# Altium footprint library RCD(RESISTORNETWORK).PCBLIB: 15 footprints
Each footprint in its own frame and in the unit in brackets; x right, y up, seen from the top. Pads: shape width x height; smd on the part's side, far side on the other; paste and mask are expansions set on the pad; w line width, h text height; cw(c..) or ccw(c..) is an arc to the next point about the centre after c.
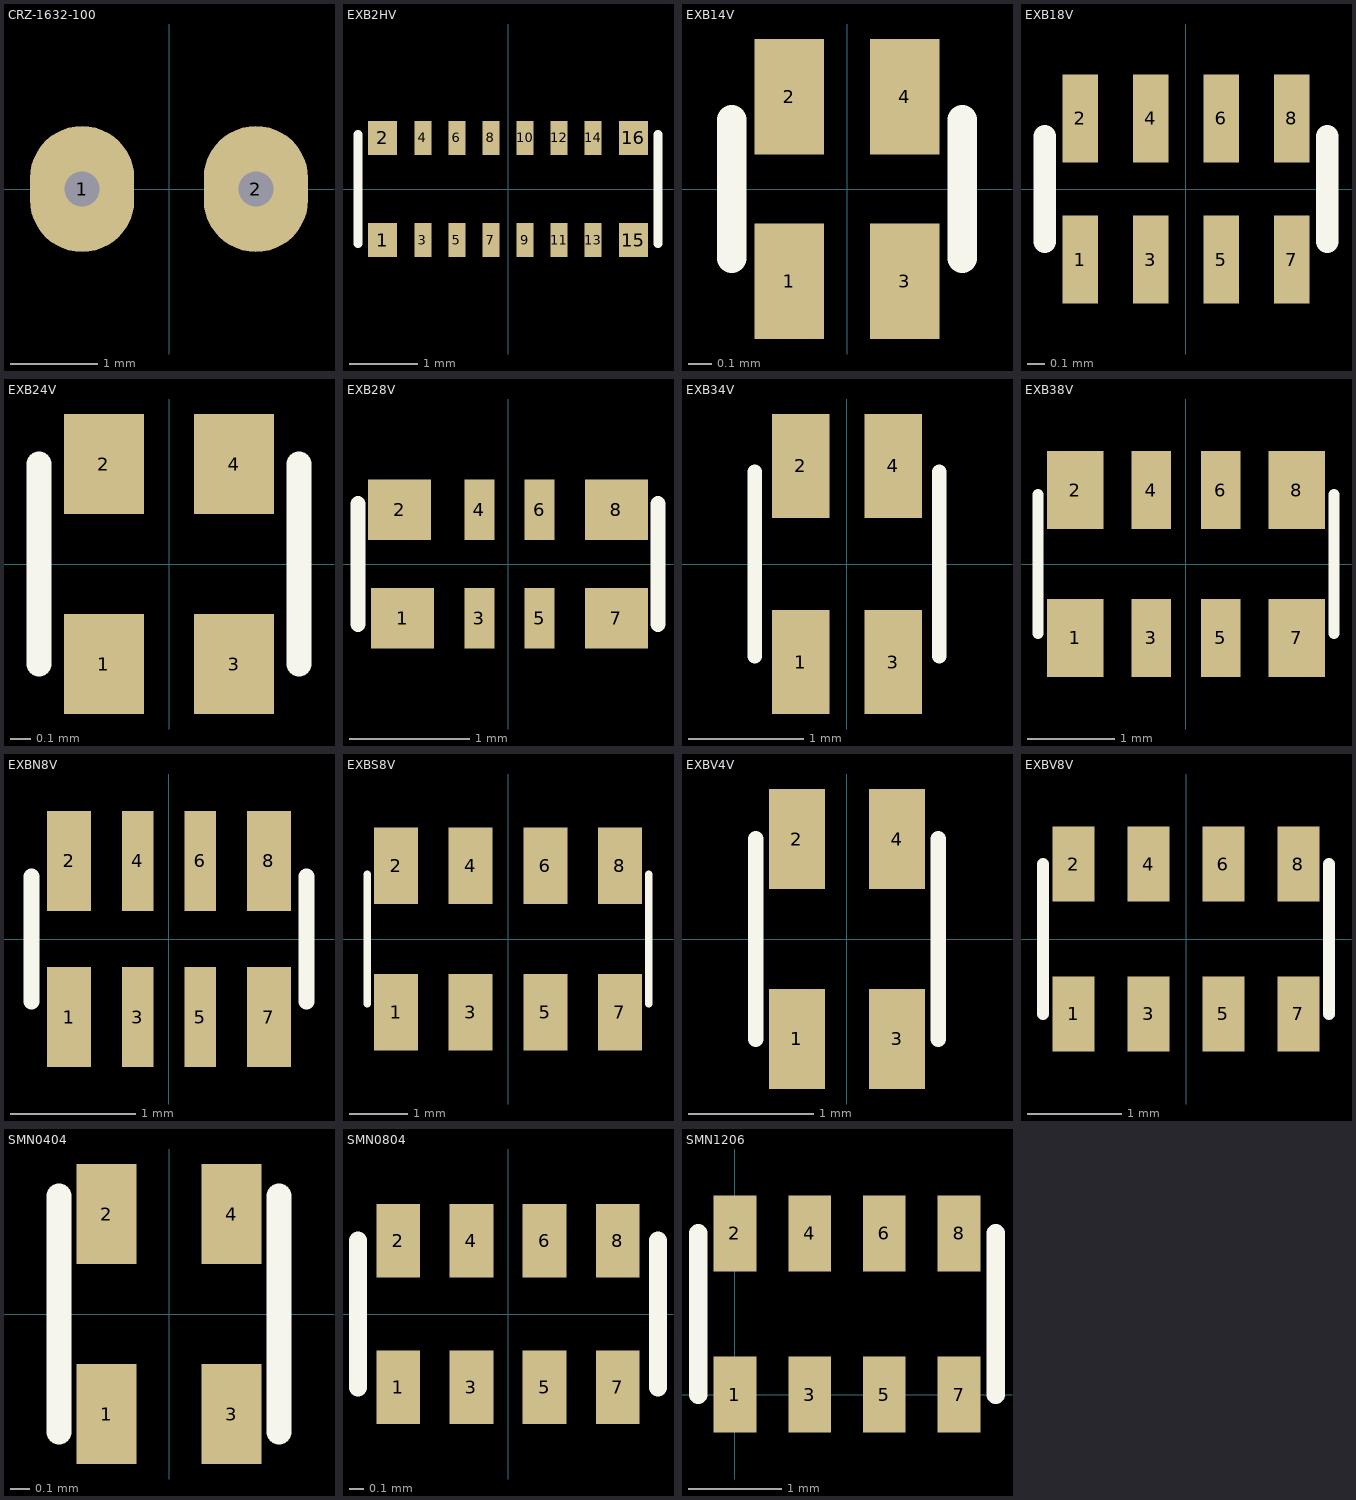
[diagram p0: the footprints below, top view; thin cyan lines are the x and y axes]

## CRZ-1632-100 [mm] "Pt100"
height 3.2
pads (2):
  oval 1.2x1.45 hole 0.4: 1(-1,0) 2(1,0)

## EXB2HV [mm] "For 0402*8"
height 0.45
pads (16):
  rect 0.425x0.5 smd: 1(-1.837,-0.75) 2(-1.837,0.75) 15(1.837,-0.75) 16(1.837,0.75)
  rect 0.25x0.5 smd: 3(-1.25,-0.75) 4(-1.25,0.75) 5(-0.75,-0.75) 6(-0.75,0.75) 7(-0.25,-0.75) 8(-0.25,0.75) 9(0.25,-0.75) 10(0.25,0.75) 11(0.75,-0.75) 12(0.75,0.75) 13(1.25,-0.75) 14(1.25,0.75)
Top Overlay:
  lines w0.127: -2.2,-0.8 -2.2,0.8 ; 2.2,-0.8 2.2,0.8

## EXB14V [mm] "For 0201*2"
height 0.009
pads (4):
  rect 0.3x0.5 smd: 1(-0.25,-0.4) 2(-0.25,0.4) 3(0.25,-0.4) 4(0.25,0.4)
Top Overlay:
  lines w0.127: -0.5,-0.3 -0.5,0.3 ; 0.5,-0.3 0.5,0.3

## EXB18V [mm] "For 0201*4"
height 0.35
pads (8):
  rect 0.2x0.5 smd: 1(-0.6,-0.4) 2(-0.6,0.4) 3(-0.2,-0.4) 4(-0.2,0.4) 5(0.2,-0.4) 6(0.2,0.4) 7(0.6,-0.4) 8(0.6,0.4)
Top Overlay:
  lines w0.127: -0.8,-0.3 -0.8,0.3 ; 0.8,-0.3 0.8,0.3

## EXB24V [mm] "For 0402*2"
height 0.35
pads (4):
  rect 0.4x0.5 smd: 1(-0.325,-0.5) 2(-0.325,0.5) 3(0.325,-0.5) 4(0.325,0.5)
Top Overlay:
  lines w0.127: -0.65,-0.5 -0.65,0.5 ; 0.65,-0.5 0.65,0.5

## EXB28V [mm] "For 0402*4"
height 0.35
pads (8):
  rect 0.525x0.5 smd: 1(-0.875,-0.45) 2(-0.9,0.45) 7(0.9,-0.45) 8(0.9,0.45)
  rect 0.25x0.5 smd: 3(-0.237,-0.45) 4(-0.237,0.45) 5(0.263,-0.45) 6(0.263,0.45)
Top Overlay:
  lines w0.127: -1.245,-0.5 -1.245,0.5 ; 1.245,-0.5 1.245,0.5

## EXB34V [mm] "For 0603*2"
height 0.5
pads (4):
  rect 0.5x0.9 smd: 1(-0.4,-0.85) 2(-0.4,0.85) 3(0.4,-0.85) 4(0.4,0.85)
Top Overlay:
  lines w0.127: -0.8,-0.8 -0.8,0.8 ; 0.8,-0.8 0.8,0.8

## EXB38V [mm] "For 0603*4"
height 0.5
pads (8):
  rect 0.65x0.9 smd: 1(-1.275,-0.85) 2(-1.275,0.85) 7(1.275,-0.85) 8(1.275,0.85)
  rect 0.45x0.9 smd: 3(-0.4,-0.85) 4(-0.4,0.85) 5(0.4,-0.85) 6(0.4,0.85)
Top Overlay:
  lines w0.127: -1.702,-0.8 -1.702,0.8 ; 1.7,-0.8 1.7,0.8

## EXBN8V [mm] "For 0402*4"
height 0.45
pads (8):
  rect 0.35x0.8 smd: 1(-0.8,-0.625) 2(-0.8,0.625) 7(0.8,-0.625) 8(0.8,0.625)
  rect 0.25x0.8 smd: 3(-0.25,-0.625) 4(-0.25,0.625) 5(0.25,-0.625) 6(0.25,0.625)
Top Overlay:
  lines w0.127: -1.1,-0.5 -1.1,0.5 ; 1.1,-0.5 1.1,0.5

## EXBS8V [mm] "For 0805*4"
height 0.7
pads (8):
  rect 0.75x1.3 smd: 1(-1.905,-1.25) 2(-1.905,1.25) 3(-0.635,-1.25) 4(-0.635,1.25) 5(0.635,-1.25) 6(0.635,1.25) 7(1.905,-1.25) 8(1.905,1.25)
Top Overlay:
  lines w0.127: -2.4,-1.1 -2.4,1.1 ; 2.4,-1.1 2.4,1.1

## EXBV4V [mm] "For 0603*2"
height 0.6
pads (4):
  rect 0.45x0.8 smd: 1(-0.4,-0.8) 2(-0.4,0.8) 3(0.4,-0.8) 4(0.4,0.8)
Top Overlay:
  lines w0.127: -0.73,-0.8 -0.73,0.8 ; 0.73,-0.8 0.73,0.8

## EXBV8V [mm] "For 0603*4"
height 0.6
pads (8):
  rect 0.45x0.8 smd: 1(-1.2,-0.8) 2(-1.2,0.8) 3(-0.4,-0.8) 4(-0.4,0.8) 5(0.4,-0.8) 6(0.4,0.8) 7(1.2,-0.8) 8(1.2,0.8)
Top Overlay:
  lines w0.127: -1.524,-0.8 -1.524,0.8 ; 1.524,-0.8 1.524,0.8

## SMN0404 [mil]
pads (4):
  rect 12x20 smd: 1(-12.5,-20) 2(-12.5,20) 3(12.5,-20) 4(12.5,20)
Top Overlay:
  lines w5: -22,-23.62 -22,23.62 ; 22,-23.62 22,23.62

## SMN0804 [mil]
pads (8):
  rect 12x20 smd: 1(-30,-20) 2(-30,20) 3(-10,-20) 4(-10,20) 5(10,-20) 6(10,20) 7(30,-20) 8(30,20)
Top Overlay:
  lines w5: -41,-20 -41,20 ; 41,-20 41,20

## SMN1206 [mil]
pads (8):
  rect 18x32 smd: 1(0,0) 2(0,68) 3(31.5,0) 4(31.5,68) 5(63,0) 6(63,68) 7(94.5,0) 8(94.5,68)
Top Overlay:
  lines w7.87: -15.5,0 -15.5,68 ; 110,0 110,68